# Altium footprint library 二三极管 MOS.PCBLIB: 88 footprints (part 3 of 6)
Each footprint in its own frame and in the unit in brackets; x right, y up, seen from the top. Pads: shape width x height; smd on the part's side, far side on the other; paste and mask are expansions set on the pad; w line width, h text height; cw(c..) or ccw(c..) is an arc to the next point about the centre after c.
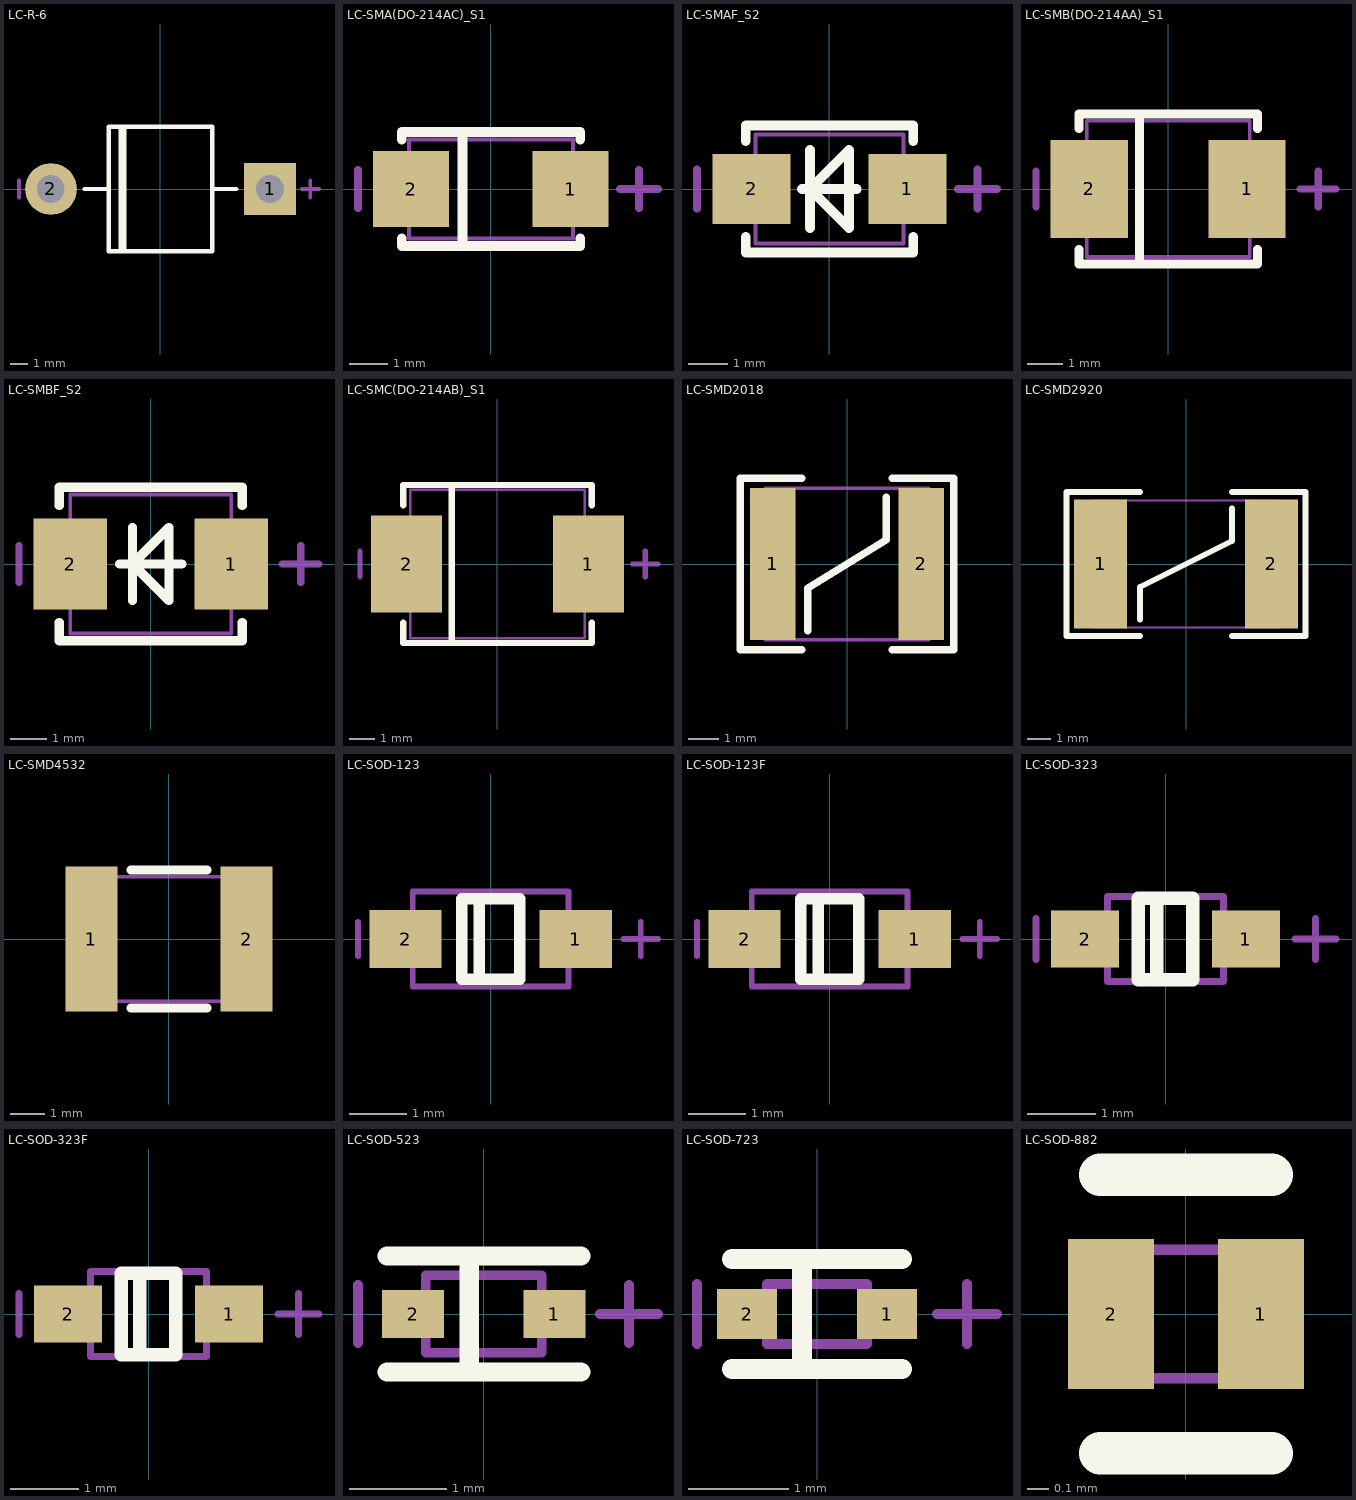
[diagram p2: the footprints below, top view; thin cyan lines are the x and y axes]

## LC-R-6 [mm]
pads (2):
  rect 3x3 hole 1.6: 1(6.35,0)
  round 3 hole 1.6: 2(-6.35,0)
TopOverlay:
  lines w0.254: -4.4,0 -3,0 ; -2.3,-3.6 -2.3,3.6 ; -2.1,-3.6 -2.1,3.6 ; 3,0 4.4,0 ; -3,-3.6 3,-3.6 3,3.6 -3,3.6 -3,-3.6
Mechanical15:
  lines w0.203: -8.2,-0.5 -8.2,0.5 ; 8.19,0 9.19,0 ; 8.69,-0.5 8.69,0.5

## LC-SMA(DO-214AC)_S1 [mm]
pads (2):
  rect 2x2 smd: 1(2.1,0) 2(-2.1,0)
TopOverlay:
  lines w0.254: -2.35,-1.3 -2.35,-1.5 2.35,-1.5 2.35,-1.3 ; -2.35,1.3 -2.35,1.5 2.35,1.5 2.35,1.3 ; -0.75,-1.5 -0.75,1.5
Mechanical13:
  lines w0.1: -2.16,-1.3 -2.16,1.3 2.16,1.3 2.16,-1.3 -2.16,-1.3
Mechanical15:
  lines w0.203: -3.5,-0.5 -3.5,0.5 ; 3.4,0 4.4,0 ; 3.9,-0.5 3.9,0.5

## LC-SMAF_S2 [mm]
pads (2):
  rect 2x1.8 smd: 1(2,0) 2(-2,0)
TopOverlay:
  lines w0.254: -2.15,-1.23 -2.15,-1.625 2.15,-1.625 2.15,-1.23 ; -2.15,1.23 -2.15,1.625 2.15,1.625 2.15,1.23 ; -0.7,0 0.7,0 ; -0.5,-1 -0.5,1 ; -0.5,0 0.5,1 0.5,-1 -0.5,0
Mechanical13:
  lines w0.1: -1.9,-1.4 1.9,-1.4 1.9,1.4 -1.9,1.4 -1.9,-1.4
Mechanical15:
  lines w0.203: -3.4,-0.5 -3.4,0.5 ; 3.3,0 4.3,0 ; 3.8,-0.5 3.8,0.5

## LC-SMB(DO-214AA)_S1 [mm]
pads (2):
  rect 2.159x2.743 smd: 1(2.21,0) 2(-2.21,0)
TopOverlay:
  lines w0.254: -2.5,-1.7 -2.5,-2.1 2.5,-2.1 2.5,-1.7 ; -2.5,1.7 -2.5,2.1 2.5,2.1 2.5,1.7 ; -0.8,-2.1 -0.8,2.1
Mechanical13:
  lines w0.1: -2.285,-1.905 -2.285,1.905 2.285,1.905 2.285,-1.905 -2.285,-1.905
Mechanical15:
  lines w0.203: -3.7,-0.5 -3.7,0.5 ; 3.7,0 4.7,0 ; 4.2,-0.5 4.2,0.5

## LC-SMBF_S2 [mm]
pads (2):
  rect 2x2.5 smd: 1(2.2,0) 2(-2.2,0)
TopOverlay:
  lines w0.254: -2.5,-1.6 -2.5,-2.1 2.5,-2.1 2.5,-1.6 ; -2.5,1.6 -2.5,2.1 2.5,2.1 2.5,1.6 ; -0.85,0 0.85,0 ; -0.5,-1 -0.5,1 ; -0.5,0 0.5,-1 0.5,1 -0.5,0
Mechanical13:
  lines w0.1: -2.2,-1.9 2.2,-1.9 2.2,1.9 -2.2,1.9 -2.2,-1.9
Mechanical15:
  lines w0.203: -3.6,-0.5 -3.6,0.5 ; 3.6,0 4.6,0 ; 4.1,-0.5 4.1,0.5

## LC-SMC(DO-214AB)_S1 [mil]
pads (2):
  rect 110x150 smd: 1(140.49,0) 2(-140.49,0)
TopOverlay:
  lines w10: -145.67,-90.55 -145.67,-122.05 145.67,-122.05 145.67,-90.55 ; -145.67,90.55 -145.67,122.05 145.67,122.05 145.67,90.55 ; -70.87,-122.05 -70.87,122.05
Mechanical13:
  lines w3.94: -135.04,-114.96 135.04,-114.96 135.04,114.96 -135.04,114.96 -135.04,-114.96
Mechanical15:
  lines w8: -212.6,-19.68 -212.6,19.68 ; 208.66,0 248.03,0 ; 228.35,-19.68 228.35,19.68

## LC-SMD2018 [mm]
pads (2):
  rect 1.5x5 smd: 1(-2.45,0) 2(2.45,0)
TopOverlay:
  lines w0.254: -1.5,-2.825 -3.525,-2.825 -3.525,2.825 -1.5,2.825 ; -1.3,-2.2 -1.3,-0.8 1.3,0.8 1.3,2.2 ; 1.5,-2.825 3.525,-2.825 3.525,2.825 1.5,2.825
Mechanical13:
  lines w0.1: -2.7,-2.5 -2.7,2.5 2.7,2.5 2.7,-2.5 -2.7,-2.5

## LC-SMD2920 [mm]
pads (2):
  rect 2.3x5.6 smd: 1(-3.7,0) 2(3.7,0)
TopOverlay:
  lines w0.254: -2,-3.125 -5.175,-3.125 -5.175,3.125 -2,3.125 ; -2,-2.4 -2,-1 2,1 2,2.4 ; 2,-3.125 5.175,-3.125 5.175,3.125 2,3.125
Mechanical13:
  lines w0.1: -4,-2.75 -4,2.75 4,2.75 4,-2.75 -4,-2.75

## LC-SMD4532 [mm]
pads (2):
  rect 1.5x4.2 smd: 1(-2.25,0) 2(2.25,0)
TopOverlay:
  lines w0.254: -1.1,-2 1.1,-2 ; -1.1,2 1.1,2
Mechanical13:
  lines w0.1: -2.4,-1.8 -2.4,1.8 2.4,1.8 2.4,-1.8 -2.4,-1.8

## LC-SOD-123 [mm]
pads (2):
  rect 1.25x1 smd: 1(1.475,0) 2(-1.475,0)
TopOverlay:
  lines w0.2: -0.2,-0.7 -0.2,0.7 ; -0.5,-0.7 -0.5,0.7 0.5,0.7 0.5,-0.7 -0.5,-0.7
Mechanical13:
  lines w0.1: -1.35,-0.825 1.35,-0.825 1.35,0.825 -1.35,0.825 -1.35,-0.825
Mechanical15:
  lines w0.1: -2.3,-0.3 -2.3,0.3 ; 2.3,0 2.9,0 ; 2.6,-0.3 2.6,0.3
3D body: height 1.35, standoff 0, extent -1.85,-0.775 1.85,0.775

## LC-SOD-123F [mm]
pads (2):
  rect 1.25x1 smd: 1(1.475,0) 2(-1.475,0)
TopOverlay:
  lines w0.2: -0.2,-0.7 -0.2,0.7 ; -0.5,-0.7 0.5,-0.7 0.5,0.7 -0.5,0.7 -0.5,-0.7
Mechanical13:
  lines w0.1: -1.35,-0.825 -1.35,0.825 1.35,0.825 1.35,-0.825 -1.35,-0.825
Mechanical15:
  lines w0.1: -2.3,-0.3 -2.3,0.3 ; 2.3,0 2.9,0 ; 2.6,-0.3 2.6,0.3
3D body: height 1.2, standoff -0.01, extent -1.9,-0.849 1.85,0.85

## LC-SOD-323 [mm]
pads (2):
  rect 1x0.83 smd: 1(1.18,0) 2(-1.18,0)
TopOverlay:
  lines w0.2: -0.13,-0.6 -0.13,0.6 ; -0.4,-0.6 0.4,-0.6 0.4,0.6 -0.4,0.6 -0.4,-0.6
Mechanical13:
  lines w0.1: -0.85,-0.625 0.85,-0.625 0.85,0.625 -0.85,0.625 -0.85,-0.625
Mechanical15:
  lines w0.1: -1.9,-0.3 -1.9,0.3 ; 1.9,0 2.5,0 ; 2.2,-0.3 2.2,0.3
3D body: height 1.1, standoff 0, extent -1.35,-0.625 1.35,0.625

## LC-SOD-323F [mm]
pads (2):
  rect 1x0.83 smd: 1(1.18,0) 2(-1.18,0)
TopOverlay:
  lines w0.2: -0.13,-0.6 -0.13,0.6 ; -0.4,-0.6 -0.4,0.6 0.4,0.6 0.4,-0.6 -0.4,-0.6
Mechanical13:
  lines w0.1: -0.85,-0.625 0.85,-0.625 0.85,0.625 -0.85,0.625 -0.85,-0.625
Mechanical15:
  lines w0.1: -1.9,-0.3 -1.9,0.3 ; 1.9,0 2.5,0 ; 2.2,-0.3 2.2,0.3
3D body: height 0.75, standoff -0.01, extent -1.4,-0.675 1.4,0.675

## LC-SOD-523 [mm]
pads (2):
  rect 0.64x0.5 smd: 1(0.73,0) 2(-0.73,0)
TopOverlay:
  lines w0.2: -1,-0.6 1,-0.6 ; -1,0.6 1,0.6 ; -0.15,-0.575 -0.15,0.6
Mechanical13:
  lines w0.1: -0.6,-0.4 0.6,-0.4 0.6,0.4 -0.6,0.4 -0.6,-0.4
Mechanical15:
  lines w0.1: -1.3,-0.3 -1.3,0.3 ; 1.2,0 1.8,0 ; 1.5,-0.3 1.5,0.3
3D body: height 0.7, standoff 0, extent -0.8,-0.399 0.8,0.399

## LC-SOD-723 [mm]
pads (2):
  rect 0.6x0.5 smd: 1(0.7,0) 2(-0.7,0)
TopOverlay:
  lines w0.2: -0.85,-0.55 0.85,-0.55 ; -0.85,0.55 0.85,0.55 ; -0.15,-0.55 -0.15,0.55
Mechanical13:
  lines w0.1: -0.5,-0.3 0.5,-0.3 0.5,0.3 -0.5,0.3 -0.5,-0.3
Mechanical15:
  lines w0.1: -1.2,-0.3 -1.2,0.3 ; 1.2,0 1.8,0 ; 1.5,-0.3 1.5,0.3

## LC-SOD-882 [mm]
pads (2):
  rect 0.4x0.7 smd mask+0.051: 1(0.35,0) 2(-0.35,0)
TopOverlay:
  lines w0.2: -0.4,-0.65 0.4,-0.65 ; -0.4,0.65 0.4,0.65
Mechanical13:
  lines w0.05: -0.5,-0.3 -0.5,0.3 0.5,0.3 0.5,-0.3 -0.5,-0.3